# Altium footprint library ic.PcbLib: 16 footprints
Each footprint in its own frame and in the unit in brackets; x right, y up, seen from the top. Pads: shape width x height; smd on the part's side, far side on the other; paste and mask are expansions set on the pad; w line width, h text height; cw(c..) or ccw(c..) is an arc to the next point about the centre after c.
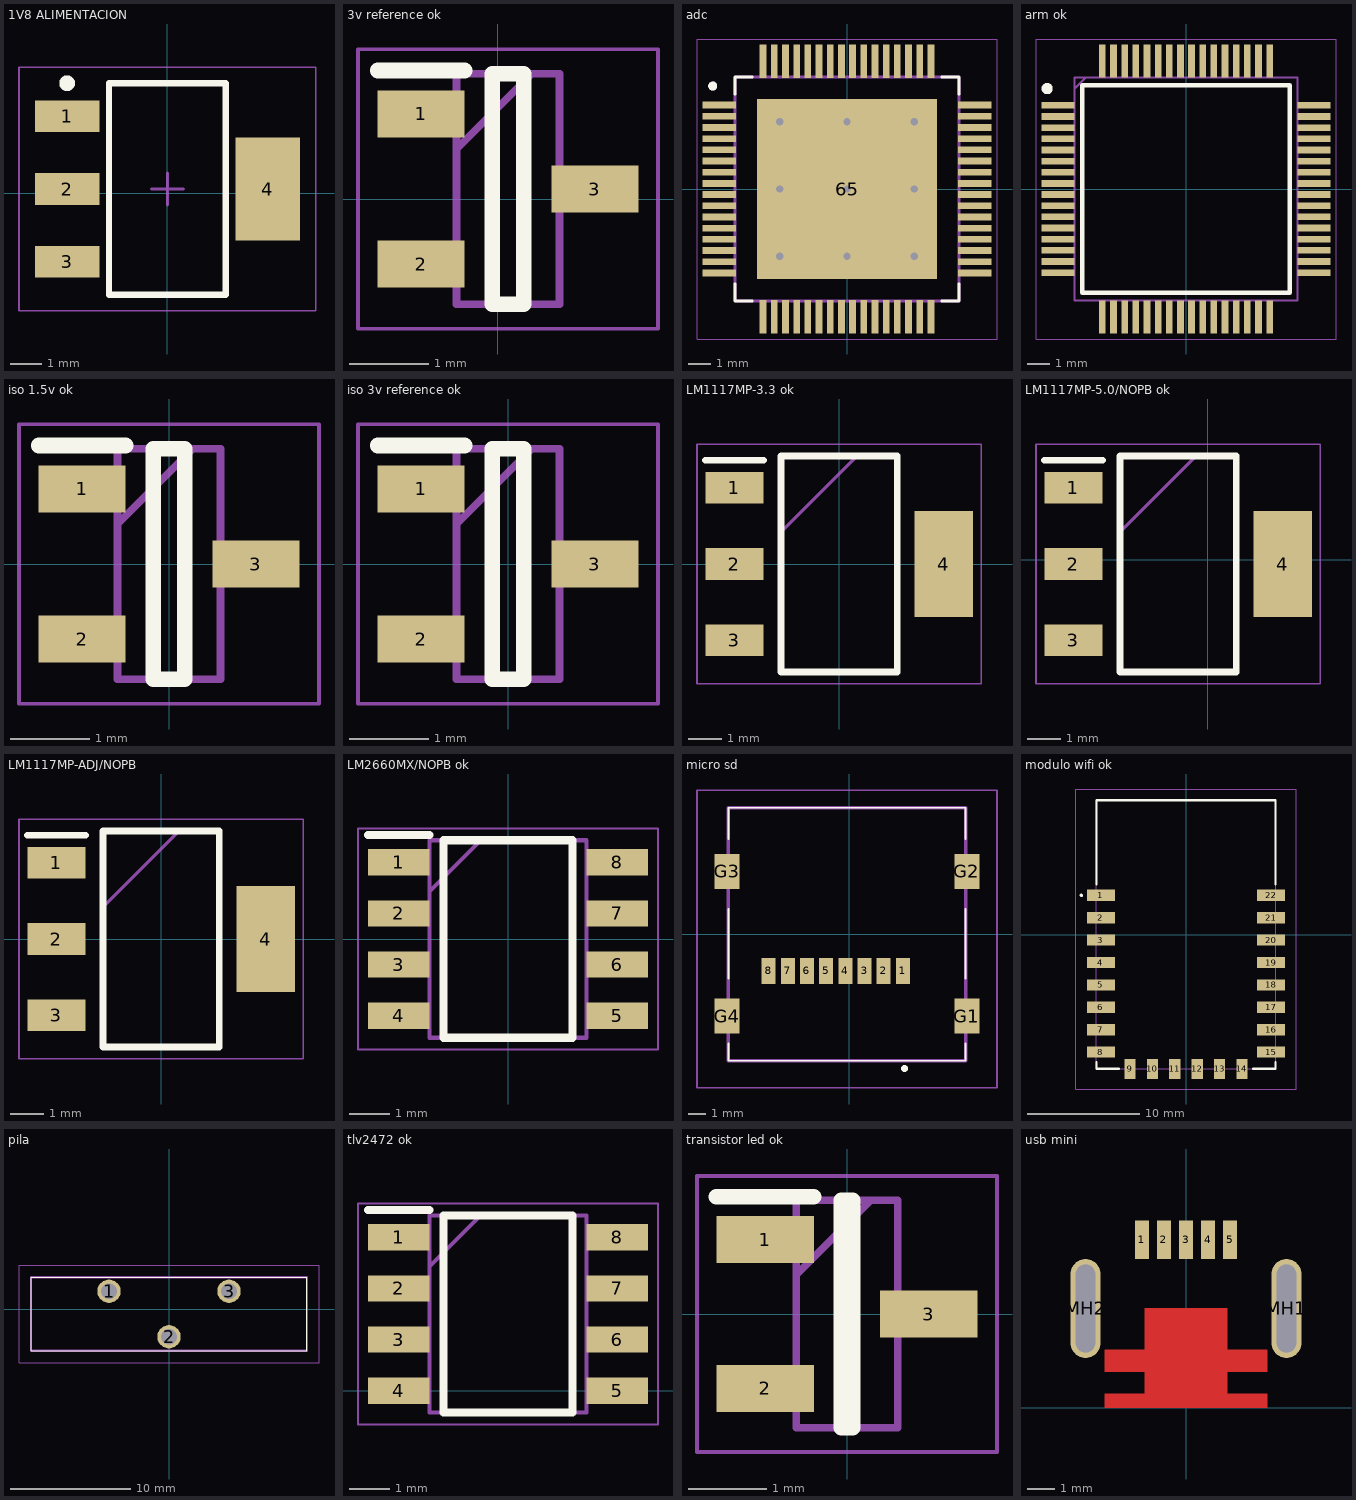
[diagram p0: the footprints below, top view; thin cyan lines are the x and y axes]

## 1V8 ALIMENTACION [mm]
pads (4):
  rect 2.05x1 smd: 1(-3.175,2.427) 2(-3.175,0.127) 3(-3.175,-2.173)
  rect 2.05x3.25 smd: 4(3.175,0.127)
Top Overlay:
  circle w0.25: c-3.175,3.477 r0.125
  lines w0.2: -1.85,-3.223 -1.85,3.477 1.85,3.477 1.85,-3.223 -1.85,-3.223
Mechanical 1:
  text ".Designator" at -1.651,-0.254 h0.8
Mechanical 13:
  lines w0.1: -1.85,-3.223 -1.85,3.477 1.85,3.477 1.85,-3.223 -1.85,-3.223
Mechanical 15:
  lines w0.05: -4.7,-3.723 -4.7,3.977 4.7,3.977 4.7,-3.723 -4.7,-3.723
  lines w0.1: -0.5,0.127 0.5,0.127 ; 0,-0.373 0,0.627
3D body "SOT-223.stp": height 1.62, standoff -0.03, extent -3.5,-3.123 3.5,3.377

## 3v reference ok [mm]
pads (3):
  rect 1.1x0.6 smd: 1(-0.973,1.077) 2(-0.973,-0.823) 3(1.227,0.127)
Top Overlay:
  lines w0.2: -1.523,1.627 -0.423,1.627 ; -0.073,-1.333 0.327,-1.333 0.327,1.587 -0.073,1.587 -0.073,-1.333
Mechanical 13:
  lines w0.1: -0.523,0.637 0.427,1.587 ; -0.523,-1.333 0.777,-1.333 0.777,1.587 -0.523,1.587 -0.523,-1.333
Mechanical 15:
  lines w0.05: -1.773,-1.643 2.027,-1.643 2.027,1.897 -1.773,1.897 -1.773,-1.643
3D body "ISL21010CFH330Z-TK.stp": height 0.94, standoff 0, extent -1.058,-1.333 1.312,1.587

## adc [mm]
pads (65):
  rect 1.5x0.3 smd mask+0: 1(-5.7,3.75) 2(-5.7,3.25) 3(-5.7,2.75) 4(-5.7,2.25) 5(-5.7,1.75) 6(-5.7,1.25) 7(-5.7,0.75) 8(-5.7,0.25) 9(-5.7,-0.25) 10(-5.7,-0.75) 11(-5.7,-1.25) 12(-5.7,-1.75) 13(-5.7,-2.25) 14(-5.7,-2.75) 15(-5.7,-3.25) 16(-5.7,-3.75) 33(5.7,-3.75) 34(5.7,-3.25) 35(5.7,-2.75) 36(5.7,-2.25) 37(5.7,-1.75) 38(5.7,-1.25) 39(5.7,-0.75) 40(5.7,-0.25) 41(5.7,0.25) 42(5.7,0.75) 43(5.7,1.25) 44(5.7,1.75) 45(5.7,2.25) 46(5.7,2.75) 47(5.7,3.25) 48(5.7,3.75)
  rect 0.3x1.5 smd mask+0: 17(-3.75,-5.7) 18(-3.25,-5.7) 19(-2.75,-5.7) 20(-2.25,-5.7) 21(-1.75,-5.7) 22(-1.25,-5.7) 23(-0.75,-5.7) 24(-0.25,-5.7) 25(0.25,-5.7) 26(0.75,-5.7) 27(1.25,-5.7) 28(1.75,-5.7) 29(2.25,-5.7) 30(2.75,-5.7) 31(3.25,-5.7) 32(3.75,-5.7) 49(3.75,5.7) 50(3.25,5.7) 51(2.75,5.7) 52(2.25,5.7) 53(1.75,5.7) 54(1.25,5.7) 55(0.75,5.7) 56(0.25,5.7) 57(-0.25,5.7) 58(-0.75,5.7) 59(-1.25,5.7) 60(-1.75,5.7) 61(-2.25,5.7) 62(-2.75,5.7) 63(-3.25,5.7) 64(-3.75,5.7)
  rect 8.026x8.026 smd paste-5 mask+0: 65(0,0)
via 2.997,-2.997 diameter 0.66 hole 0.33
via 0,-2.997 diameter 0.66 hole 0.33
via -2.997,-2.997 diameter 0.66 hole 0.33
via -2.997,0 diameter 0.66 hole 0.33
via -2.997,2.997 diameter 0.66 hole 0.33
via 0,2.997 diameter 0.66 hole 0.33
via 2.997,2.997 diameter 0.66 hole 0.33
via 2.997,0 diameter 0.66 hole 0.33
via 0,0 diameter 0.66 hole 0.33
Top Overlay:
  circle w0.2: c-6,4.6 r0.1
  lines w0.127: -5,-4.23 -5,-5 -4.23,-5 ; -5,4.23 -5,5 -4.23,5 ; 4.23,-5 5,-5 5,-4.23 ; 4.23,5 5,5 5,4.23
Top Paste:
  region: 2.5,-2.5 -2.5,-2.5 -2.5,2.5 2.5,2.5
Top Solder:
  drawing of 65 lines, arcs and shapes, not listed
Mechanical 13:
  circle w0.2: c-6,4.6 r0.1
  lines w0.127: -5,-5 5,-5 5,5 -5,5 -5,-5
Mechanical 15:
  lines w0.05: -6.7,-6.7 6.7,-6.7 6.7,6.7 -6.7,6.7 -6.7,-6.7
3D body "step_temp.STEP": height 1.2, standoff 0, extent -6,-6 6,6

## arm ok [mm]
pads (64):
  rect 1.475x0.3 smd: 1(-5.738,3.75) 2(-5.738,3.25) 3(-5.738,2.75) 4(-5.738,2.25) 5(-5.738,1.75) 6(-5.738,1.25) 7(-5.738,0.75) 8(-5.738,0.25) 9(-5.738,-0.25) 10(-5.738,-0.75) 11(-5.738,-1.25) 12(-5.738,-1.75) 13(-5.738,-2.25) 14(-5.738,-2.75) 15(-5.738,-3.25) 16(-5.738,-3.75) 33(5.738,-3.75) 34(5.738,-3.25) 35(5.738,-2.75) 36(5.738,-2.25) 37(5.738,-1.75) 38(5.738,-1.25) 39(5.738,-0.75) 40(5.738,-0.25) 41(5.738,0.25) 42(5.738,0.75) 43(5.738,1.25) 44(5.738,1.75) 45(5.738,2.25) 46(5.738,2.75) 47(5.738,3.25) 48(5.738,3.75)
  rect 0.3x1.475 smd: 17(-3.75,-5.738) 18(-3.25,-5.738) 19(-2.75,-5.738) 20(-2.25,-5.738) 21(-1.75,-5.738) 22(-1.25,-5.738) 23(-0.75,-5.738) 24(-0.25,-5.738) 25(0.25,-5.738) 26(0.75,-5.738) 27(1.25,-5.738) 28(1.75,-5.738) 29(2.25,-5.738) 30(2.75,-5.738) 31(3.25,-5.738) 32(3.75,-5.738) 49(3.75,5.738) 50(3.25,5.738) 51(2.75,5.738) 52(2.25,5.738) 53(1.75,5.738) 54(1.25,5.738) 55(0.75,5.738) 56(0.25,5.738) 57(-0.25,5.738) 58(-0.75,5.738) 59(-1.25,5.738) 60(-1.75,5.738) 61(-2.25,5.738) 62(-2.75,5.738) 63(-3.25,5.738) 64(-3.75,5.738)
Top Overlay:
  circle w0.25: c-6.225,4.5 r0.125
  lines w0.2: -4.65,-4.65 4.65,-4.65 4.65,4.65 -4.65,4.65 -4.65,-4.65
Mechanical 13:
  lines w0.1: -5,4.5 -4.5,5 ; -5,-5 5,-5 5,5 -5,5 -5,-5
Mechanical 15:
  lines w0.05: -6.725,-6.725 6.725,-6.725 6.725,6.725 -6.725,6.725 -6.725,-6.725
3D body "ATSAM4S8BA-AU.stp": height 1.6, standoff 0, extent -6,-6 6,6

## iso 1.5v ok [mm]
pads (3):
  rect 1.1x0.6 smd: 1(-1.1,0.95) 2(-1.1,-0.95) 3(1.1,0)
Top Overlay:
  lines w0.2: -1.65,1.5 -0.55,1.5 ; -0.2,-1.46 -0.2,1.46 0.2,1.46 0.2,-1.46 -0.2,-1.46
Mechanical 13:
  lines w0.1: -0.65,0.51 0.3,1.46 ; -0.65,-1.46 -0.65,1.46 0.65,1.46 0.65,-1.46 -0.65,-1.46
Mechanical 15:
  lines w0.05: -1.9,-1.77 -1.9,1.77 1.9,1.77 1.9,-1.77 -1.9,-1.77
3D body "ISL21080CIH315Z-TK.stp": height 1.12, standoff 0, extent -1.185,-1.46 1.185,1.46

## iso 3v reference ok [mm]
pads (3):
  rect 1.1x0.6 smd: 1(-1.1,0.95) 2(-1.1,-0.95) 3(1.1,0)
Top Overlay:
  lines w0.2: -1.65,1.5 -0.55,1.5 ; -0.2,-1.46 -0.2,1.46 0.2,1.46 0.2,-1.46 -0.2,-1.46
Mechanical 13:
  lines w0.1: -0.65,0.51 0.3,1.46 ; -0.65,-1.46 -0.65,1.46 0.65,1.46 0.65,-1.46 -0.65,-1.46
Mechanical 15:
  lines w0.05: -1.9,-1.77 -1.9,1.77 1.9,1.77 1.9,-1.77 -1.9,-1.77
3D body "ISL21010CFH330Z-TK.stp": height 0.94, standoff 0, extent -1.185,-1.46 1.185,1.46

## LM1117MP-3.3 ok [mm]
pads (4):
  rect 1.75x0.95 smd: 1(-3.15,2.3) 2(-3.15,0) 3(-3.15,-2.3)
  rect 1.75x3.2 smd: 4(3.15,0)
Top Overlay:
  lines w0.2: -4.025,3.125 -2.275,3.125 ; -1.75,-3.25 1.75,-3.25 1.75,3.25 -1.75,3.25 -1.75,-3.25
Mechanical 13:
  lines w0.1: -1.75,0.95 0.55,3.25 ; -1.75,-3.25 1.75,-3.25 1.75,3.25 -1.75,3.25 -1.75,-3.25
Mechanical 15:
  lines w0.05: -4.275,-3.6 4.275,-3.6 4.275,3.6 -4.275,3.6 -4.275,-3.6
3D body "LM1117MP-3.3.stp": height 1.68, standoff 0, extent -3.5,-3.25 3.5,3.25

## LM1117MP-5.0/NOPB ok [mm]
pads (4):
  rect 1.75x0.95 smd: 1(-4.039,2.173) 2(-4.039,-0.127) 3(-4.039,-2.427)
  rect 1.75x3.2 smd: 4(2.261,-0.127)
Top Overlay:
  lines w0.2: -4.914,2.998 -3.164,2.998 ; -2.639,-3.377 -2.639,3.123 0.861,3.123 0.861,-3.377 -2.639,-3.377
Mechanical 13:
  lines w0.1: -2.639,0.823 -0.339,3.123 ; -2.639,-3.377 -2.639,3.123 0.861,3.123 0.861,-3.377 -2.639,-3.377
Mechanical 15:
  lines w0.05: -5.164,-3.727 -5.164,3.473 3.386,3.473 3.386,-3.727 -5.164,-3.727
3D body "LM1117MP-5.0_NOPB.stp": height 1.68, standoff 0, extent -4.389,-3.377 2.611,3.123

## LM1117MP-ADJ/NOPB [mm]
pads (4):
  rect 1.75x0.95 smd: 1(-3.15,2.3) 2(-3.15,0) 3(-3.15,-2.3)
  rect 1.75x3.2 smd: 4(3.15,0)
Top Overlay:
  lines w0.2: -4.025,3.125 -2.275,3.125 ; -1.75,-3.25 -1.75,3.25 1.75,3.25 1.75,-3.25 -1.75,-3.25
Mechanical 13:
  lines w0.1: -1.75,0.95 0.55,3.25 ; -1.75,-3.25 -1.75,3.25 1.75,3.25 1.75,-3.25 -1.75,-3.25
Mechanical 15:
  lines w0.05: -4.275,-3.6 -4.275,3.6 4.275,3.6 4.275,-3.6 -4.275,-3.6
3D body "LM1117MP-ADJ_NOPB.stp": height 1.68, standoff 0, extent -3.5,-3.25 3.5,3.25

## LM2660MX/NOPB ok [mm]
pads (8):
  rect 1.528x0.65 smd: 1(-2.711,1.905) 2(-2.711,0.635) 3(-2.711,-0.635) 4(-2.711,-1.905) 5(2.711,-1.905) 6(2.711,-0.635) 7(2.711,0.635) 8(2.711,1.905)
Top Overlay:
  lines w0.2: -3.475,2.58 -1.948,2.58 ; -1.598,-2.452 -1.598,2.452 1.598,2.452 1.598,-2.452 -1.598,-2.452
Mechanical 13:
  lines w0.1: -1.948,1.182 -0.678,2.452 ; -1.948,-2.452 -1.948,2.452 1.948,2.452 1.948,-2.452 -1.948,-2.452
Mechanical 15:
  lines w0.05: -3.725,-2.75 -3.725,2.75 3.725,2.75 3.725,-2.75 -3.725,-2.75
3D body "LM2660MX_NOPB.stp": height 1.63, standoff 0, extent -3.011,-2.451 3.011,2.451

## micro sd [mm]
pads (12):
  rect 0.8x1.5 smd: 1(3.078,-2.1) 2(1.978,-2.1) 3(0.878,-2.1) 4(-0.222,-2.1) 5(-1.322,-2.1) 6(-2.422,-2.1) 7(-3.522,-2.1) 8(-4.622,-2.1)
  rect 1.45x2 smd: G1(6.748,-4.7) G2(6.748,3.6) G3(-7.002,3.6) G4(-7.002,-4.7)
Top Overlay:
  lines w0.1: -6.927,-6.25 -6.927,-7.25 6.673,-7.25 6.673,-6.25 ; -6.927,-2.55 -6.927,1.45 ; -6.927,5.45 -6.927,7.25 6.673,7.25 6.673,5.45 ; 6.673,-2.55 6.673,1.45
  lines w0.2: 3.073,-7.7 ccw(c3.173,-7.7) 3.273,-7.7 ccw(c3.173,-7.7) 3.073,-7.7
Mechanical 13:
  lines w0.2: -6.927,-7.25 -6.927,7.25 6.673,7.25 6.673,-7.25 -6.927,-7.25
Mechanical 15:
  lines w0.1: -8.727,-8.8 -8.727,8.25 8.473,8.25 8.473,-8.8 -8.727,-8.8
3D body "0472192001.stp": height 1.91, standoff 0.01, extent -7.427,-7.25 7.173,7.25

## modulo wifi ok [mm]
pads (22):
  rect 2.5x1 smd: 1(-7.6,3.5) 2(-7.6,1.5) 3(-7.6,-0.5) 4(-7.6,-2.5) 5(-7.6,-4.5) 6(-7.6,-6.5) 7(-7.6,-8.5) 8(-7.6,-10.5) 15(7.6,-10.5) 16(7.6,-8.5) 17(7.6,-6.5) 18(7.6,-4.5) 19(7.6,-2.5) 20(7.6,-0.5) 21(7.6,1.5) 22(7.6,3.5)
  rect 1x1.8 smd: 9(-5,-12) 10(-3,-12) 11(-1,-12) 12(1,-12) 13(3,-12) 14(5,-12)
Top Overlay:
  lines w0.2: -8,-11.4 -8,-12 -6,-12 ; -8,4.5 -8,12 8,12 8,4.5 ; 6,-12 8,-12 8,-11.4 ; -9.4,3.5 cw(c-9.35,3.5) -9.3,3.5 ; -9.4,3.5 ccw(c-9.35,3.5) -9.3,3.5 ; -9.4,3.5 cw(c-9.35,3.5) -9.3,3.5
Mechanical 13:
  lines w0.1: -8,-12 8,-12 8,12 -8,12 -8,-12
Mechanical 15:
  lines w0.1: -9.85,-13.8 -9.85,13 9.85,13 9.85,-13.8 -9.85,-13.8
3D body "esp-12f.stp": height 3.1, standoff 0, extent -8,-12 8,12

## pila [mm]
pads (3):
  round 1.95 hole 1.3: 1(-5,1.524) 2(0,-2.276) 3(5,1.524)
Top Overlay:
  lines w0.1: -11.5,-3.426 -11.5,2.674 11.5,2.674 11.5,-3.426 -11.5,-3.426
Mechanical 13:
  lines w0.2: -11.5,-3.426 -11.5,2.674 11.5,2.674 11.5,-3.426 -11.5,-3.426
Mechanical 15:
  lines w0.1: -12.5,-4.426 -12.5,3.674 12.5,3.674 12.5,-4.426 -12.5,-4.426
3D body "1074.stp": height 24.68, standoff -2.77, extent -11.5,-3.426 11.5,2.674

## tlv2472 ok [mm]
pads (8):
  rect 1.525x0.65 smd: 1(2.241,3.81) 2(2.241,2.54) 3(2.241,1.27) 4(2.241,0) 5(7.665,0) 6(7.665,1.27) 7(7.665,2.54) 8(7.665,3.81)
Top Overlay:
  lines w0.2: 1.478,4.485 3.003,4.485 ; 3.353,-0.545 3.353,4.355 6.553,4.355 6.553,-0.545 3.353,-0.545
Mechanical 13:
  lines w0.1: 3.003,3.085 4.273,4.355 ; 3.003,-0.545 3.003,4.355 6.903,4.355 6.903,-0.545 3.003,-0.545
Mechanical 15:
  lines w0.05: 1.228,-0.845 1.228,4.655 8.678,4.655 8.678,-0.845 1.228,-0.845
3D body "NE555DR.stp": height 1.75, standoff 0, extent 1.953,-0.545 7.953,4.355

## transistor led ok [mm]
pads (3):
  rect 1.25x0.6 smd: 1(-1.05,0.955) 2(-1.05,-0.955) 3(1.05,0)
Top Overlay:
  lines w0.2: -1.675,1.505 -0.425,1.505 ; -0.075,-1.46 0.075,-1.46 0.075,1.46 -0.075,1.46 -0.075,-1.46
Mechanical 13:
  lines w0.1: -0.65,0.505 0.305,1.46 ; -0.65,-1.46 0.65,-1.46 0.65,1.46 -0.65,1.46 -0.65,-1.46
Mechanical 15:
  lines w0.05: -1.925,-1.77 1.925,-1.77 1.925,1.77 -1.925,1.77 -1.925,-1.77
3D body "MMBT2222ALT1G.stp": height 1.11, standoff 0, extent -1.185,-1.46 1.185,1.46

## usb mini [mm]
pads (7):
  rect 0.5x1.4 smd: 1(-1.6,6.1) 2(-0.8,6.1) 3(0,6.1) 4(0.8,6.1) 5(1.6,6.1)
  rrect100% 1.1x3.6 hole 0.7 slot 3.2 at 90 deg: MH1(3.65,3.6) MH2(-3.65,3.6)
Top Layer:
  pour cut-out: 2.95,2.1 1.5,2.1 1.5,1.3 2.95,1.3
  pour cut-out: 2.95,0.5 1.5,0.5 1.5,0 2.95,0
  pour cut-out: -1.5,0.5 -2.95,0.5 -2.95,0 -1.5,0
  pour cut-out: -1.5,2.1 -2.95,2.1 -2.95,1.3 -1.5,1.3
  pour cut-out: -1.5,0 1.5,0 1.5,3.6 -1.5,3.6
3D body "WQ-1600514.stp": height 3.91, standoff -0.79, extent -3.85,-0.5 3.85,6.5